# Altium footprint library FP-S3B-PH-K-S_LF_SN-MFG.PcbLib: 1 footprints
Each footprint in its own frame and in the unit in brackets; x right, y up, seen from the top. Pads: shape width x height; smd on the part's side, far side on the other; paste and mask are expansions set on the pad; w line width, h text height; cw(c..) or ccw(c..) is an arc to the next point about the centre after c.
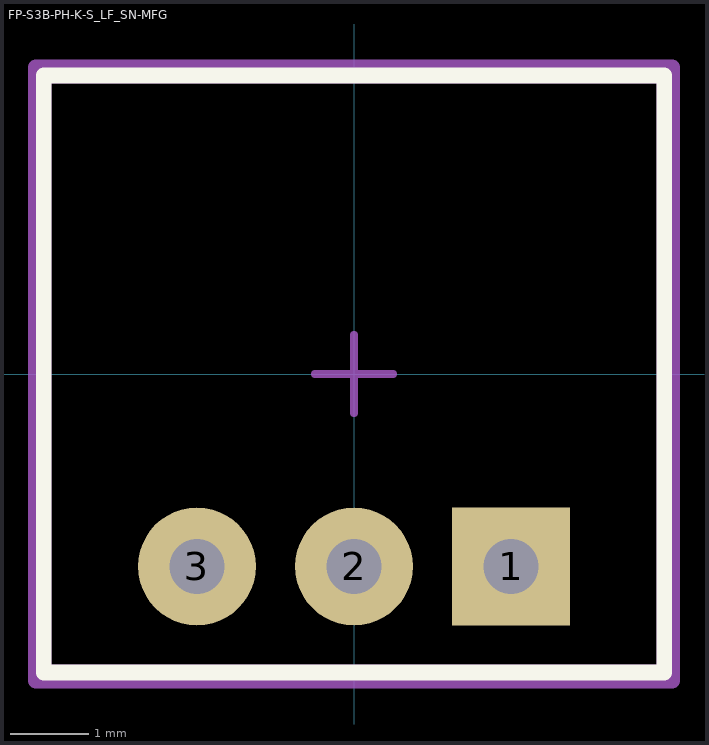
[diagram p0: the footprint, top view; thin cyan lines are the x and y axes]

## FP-S3B-PH-K-S_LF_SN-MFG [mm]
pads (3):
  rect 1.5x1.5 hole 0.7 paste-1000 mask+0: 1(2,-2.45)
  round 1.5 hole 0.7 paste-1000 mask+0: 2(0,-2.45) 3(-2,-2.45)
Top Overlay:
  lines w0.2: -3.95,-3.8 3.95,-3.8 3.95,3.8 -3.95,3.8 -3.95,-3.8
Top Assembly:
  lines w0.2: -4.05,-3.9 4.05,-3.9 4.05,3.9 -4.05,3.9 -4.05,-3.9
  text ".Designator" at 0,-0.001 h1
Top 3D Body:
  lines w0.2: -3.95,-3.8 3.95,-3.8 3.95,3.8 -3.95,3.8 -3.95,-3.8
Top Courtyard:
  lines w0.2: -4.05,-3.9 4.05,-3.9 4.05,3.9 -4.05,3.9 -4.05,-3.9
Top Component Center:
  lines w0.1: -0.5,0 0.5,0 ; 0,-0.5 0,0.5
3D body "Conn_JST_S3B-PH-K-S_LF_SN_eec.STEP": height 0.25, standoff 0, extent -4.05,-3.9 4.05,3.9